# EAGLE library part RPI3 (library Raspberry_Pi_3)
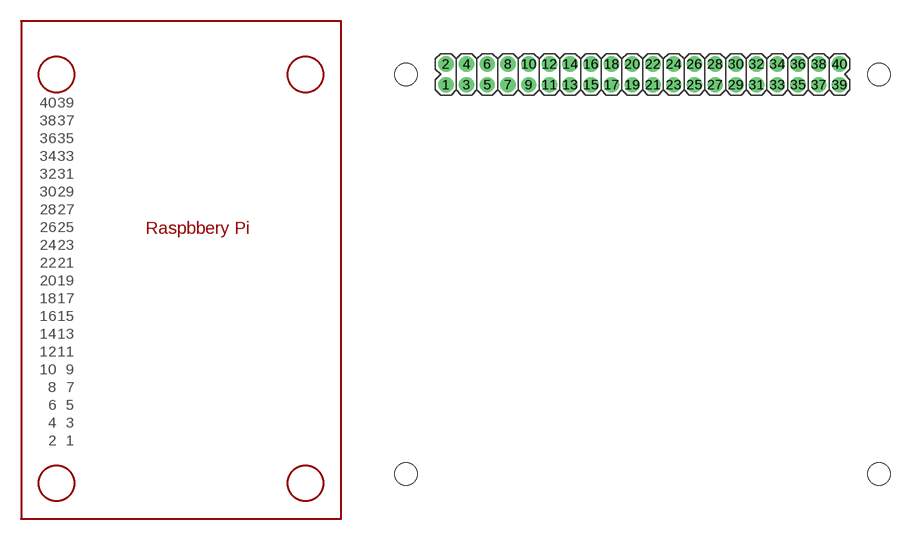
[diagram p0: symbol with the pads of PI; footprint PI]

Designator prefix -

## RPI3  [PI]
1  P$1
2  P$2
3  P$3
4  P$4
5  P$5
6  P$6
7  P$7
8  P$8
9  P$9
10  P$10
11  P$11
12  P$12
13  P$13
14  P$14
15  P$15
16  P$16
17  P$17
18  P$18
19  P$19
20  P$20
21  P$21
22  P$22
23  P$23
24  P$24
25  P$25
26  P$26
27  P$27
28  P$28
29  P$29
30  P$30
31  P$31
32  P$32
33  P$33
34  P$34
35  P$35
36  P$36
37  P$37
38  P$38
39  P$39
40  P$40

## Footprint PI (pad centres in mm)
drill 1.016 pad 1.88: 1 8.39,51.22; 2 8.39,53.76; 3 10.93,51.22; 4 10.93,53.76; 5 13.47,51.22; 6 13.47,53.76; 7 16.01,51.22; 8 16.01,53.76; 9 18.55,51.22; 10 18.55,53.76; 11 21.09,51.22; 12 21.09,53.76; 13 23.63,51.22; 14 23.63,53.76; 15 26.17,51.22; 16 26.17,53.76; 17 28.71,51.22; 18 28.71,53.76; 19 31.25,51.22; 20 31.25,53.76; 21 33.79,51.22; 22 33.79,53.76; 23 36.33,51.22; 24 36.33,53.76; 25 38.87,51.22; 26 38.87,53.76; 27 41.41,51.22; 28 41.41,53.76; 29 43.95,51.22; 30 43.95,53.76; 31 46.49,51.22; 32 46.49,53.76; 33 49.03,51.22; 34 49.03,53.76; 35 51.57,51.22; 36 51.57,53.76; 37 54.11,51.22; 38 54.11,53.76; 39 56.65,51.22; 40 56.65,53.76
hole 2.75 at 3.5,52.5
hole 2.75 at 3.5,3.5
hole 2.75 at 61.5,3.5
hole 2.75 at 61.5,52.5